# EAGLE library part PIC10F200 (library microchip_pic10f)
Low pincount microcontroller http://www.microchip.com/wwwproducts/Devices.aspx?product=PIC10F200 Properties Parameter Name Value Program Memory Type Flash Program Memory (KB) 0.375 CPU Speed (MIPS) 1 RAM Bytes 16 Timers 1 x 8-bit Temperature Range (C) -40 to 125 Operating Voltage Range (V) 2 to 5.5 Pin Count 6 Features Available in either SOT-23 or 2x3 DFN packaging Precision 4 MHz internal oscillator Baseline Core with 33 Instructions, 2 Stack Levels All single-cycle Instructions except for program branches which are two cycles 12-bit wide instructions 8-bit wide data path 25 mA source/sink current I/O Low power (100nA) sleep current One 8-bit timer (TMR0) Watchdog timer (WDT) In Circuit Serial Programming™ (ICSP™) capability In-Circuit debugging support Programmable code protection Library from www.mikroelektroniikka.fi/lbr
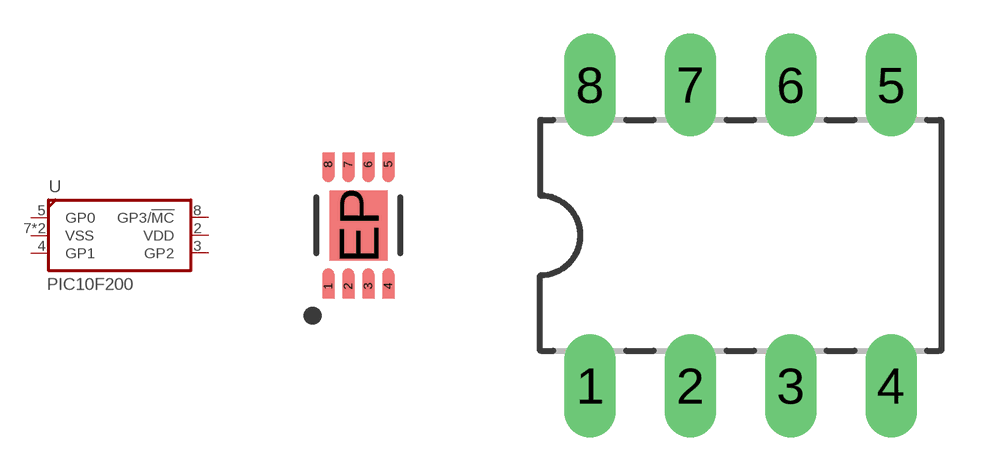
[diagram p0: symbol with the pads of DFN8; footprints DFN8, DIL08]

Designator prefix U

## PIC10F200MC (VALUE: PIC10F200-E/MC)  [DFN8]
2  VDD  pas
3  GP2
4  GP1
5  GP0
7  VSS  pas
8  GP3/!MC!  in
EP  VSS  pas

## PIC10F200P (VALUE: PIC10F200-E/P)  [DIL08]
2  VDD  pas
3  GP2
4  GP1
5  GP0
7  VSS  pas
8  GP3/!MC!  in

## PIC10F200OT (VALUE: PIC10F200-E/OT)  [SOT23-6L]
1  GP0
2  VSS  pas
3  GP1
4  GP2
5  VDD  pas
6  GP3/!MC!  in

## Footprint DFN8 (pad centres in mm)
DFN8 (MC) 8-Lead plastic dual flat, no lead package 2x3x0.9 mm (Microchip)
smd 0.3 x 0.6: 1 -0.75,-1.525; 2 -0.25,-1.525; 3 0.25,-1.525; 4 0.75,-1.525; 5 0.75,1.525; 6 0.25,1.525; 7 -0.25,1.525; 8 -0.75,1.525
smd 1.45 x 1.75: EP 0,0

## Footprint DIL08 (pad centres in mm)
Dual In Line Package
drill 0.8 pad 1.3 long: 1 -3.81,-3.81; 2 -1.27,-3.81; 3 1.27,-3.81; 4 3.81,-3.81; 5 3.81,3.81; 6 1.27,3.81; 7 -1.27,3.81; 8 -3.81,3.81

## Footprint SOT23-6L (pad centres in mm)
Small Outline Transistor
smd 0.6 x 1.1: 1 -0.95,-1.4; 2 0,-1.4; 3 0.95,-1.4; 4 0.95,1.4; 5 0,1.4; 6 -0.95,1.4